# EAGLE library part POLOLU_MOTOR (library rov)
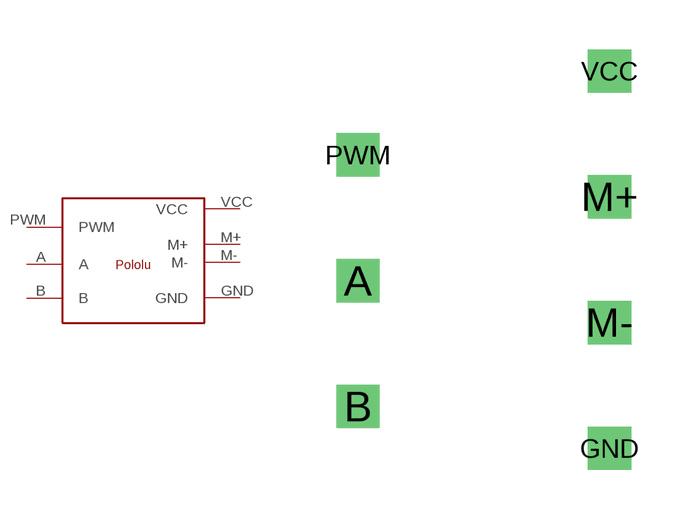
[diagram p0: symbol with the pads of POLOLU_MOTOR; footprint POLOLU_MOTOR]

Designator prefix -

## POLOLU_MOTOR  [POLOLU_MOTOR]
A  A
B  B
GND  GND
M+  M+
M-  M-
PWM  PWM
VCC  VCC

## Footprint POLOLU_MOTOR (pad centres in mm)
drill 0.8 square: A -11.43,-2.54; B -11.43,-6.35; GND -3.81,-7.62; M+ -3.81,0; M- -3.81,-3.81; PWM -11.43,1.27; VCC -3.81,3.81